# Altium footprint library PocketLab_DMM_EVT0.PcbLib: 33 footprints (part 3 of 3)
Each footprint in its own frame and in the unit in brackets; x right, y up, seen from the top. Pads: shape width x height; smd on the part's side, far side on the other; paste and mask are expansions set on the pad; w line width, h text height; cw(c..) or ccw(c..) is an arc to the next point about the centre after c.
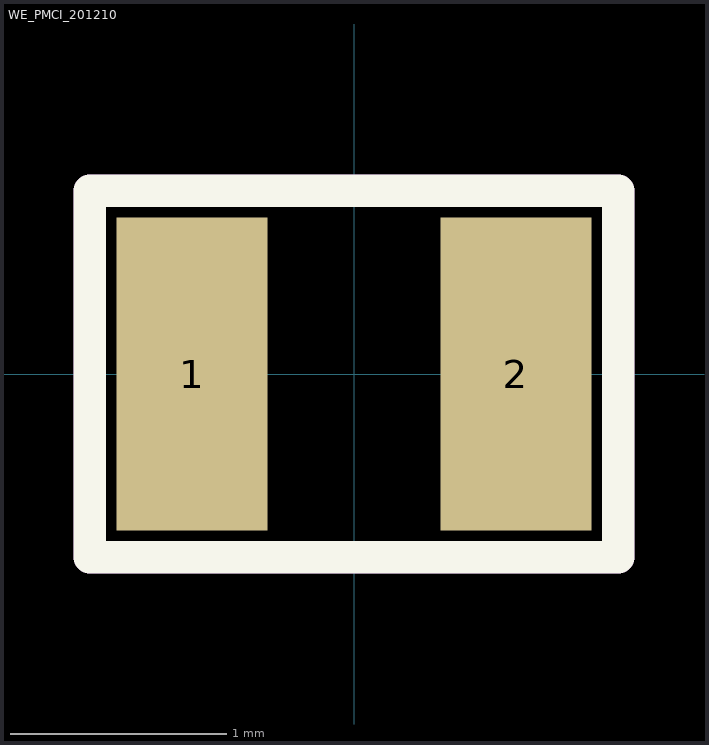
[diagram p2: the footprint, top view; thin cyan lines are the x and y axes]

## WE_PMCI_201210 [mm]
height 1
pads (2):
  rect 0.7x1.45 smd: 1(-0.75,0) 2(0.75,0)
Top Overlay:
  lines w0.15: -1.225,-0.85 -1.225,0.85 1.225,0.85 1.225,-0.85 -1.225,-0.85
Top Assembly:
  lines w0.15: -1.225,-0.85 -1.225,0.85 1.225,0.85 1.225,-0.85 -1.225,-0.85
  text ".Designator" at -3.499,-0.233 h0.7
3D body "WE-PMCI-0805_74479275222.stp": height 1.01, standoff 0.01, extent -1,-0.6 1,0.65